# Altium schematic symbol library SCH - POWER - SWITCHMODE - TI TPS51211_DSC_10.SchLib: 1 symbol
Pins are listed as number, name and electrical type; pins without a type are passive.

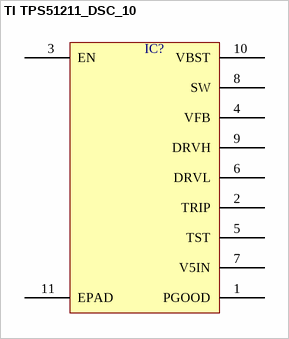
[diagram p0: symbol TI TPS51211_DSC_10]

## TI TPS51211_DSC_10
designator IC?  (value not drawn)
pins: 1 PGOOD, 2 TRIP, 3 EN, 4 VFB, 5 TST, 6 DRVL, 7 V5IN, 8 SW, 9 DRVH, 10 VBST, 11 EPAD